# Altium schematic symbol library LX1-RS232.SchLib: 2 symbols
Pins are listed as number, name and electrical type; pins without a type are passive.

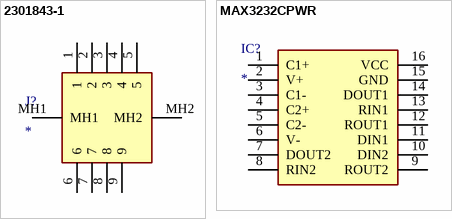
[diagram p0: symbols 2301843-1 to MAX3232CPWR]

## 2301843-1
designator J?
Connector; Manufacturer_Name: TE Connectivity; Manufacturer_Part_Number: 2301843-1; Datasheet Link: https://componentsearchengine.com/Datasheets/2/2301843-1.pdf; Height: 13.955mm; Mouser Part Number: 571-2301843-1; Mouser Price/Stock: https://www.mouser.com/Search/Refine.aspx?Keyword=571-2301843-1
footprint 23018431
pins: 1, 2, 3, 4, 5, 6, 7, 8, 9, MH1, MH2

## MAX3232CPWR
designator IC?
Integrated Circuit; Manufacturer_Name: Texas Instruments; Manufacturer_Part_Number: MAX3232CPWR; Datasheet Link: http://www.ti.com/lit/gpn/max3232; Height: 1.2mm; Mouser Part Number: 595-MAX3232CPWR; Mouser Price/Stock: https://www.mouser.com/Search/Refine.aspx?Keyword=595-MAX3232CPWR
footprint SOP65P640X120-16N
pins: 1 C1+, 2 V+, 3 C1-, 4 C2+, 5 C2-, 6 V-, 7 DOUT2, 8 RIN2, 9 ROUT2, 10 DIN2, 11 DIN1, 12 ROUT1, 13 RIN1, 14 DOUT1, 15 GND, 16 VCC